# EAGLE library part 52892-1595 (library molex)
CONNECTOR, FPC, ZIF, 0.50MM, 15 WAY
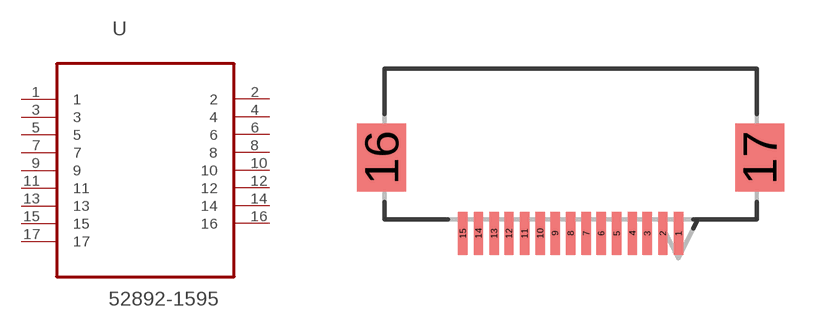
[diagram p30: symbol with the pads of MOLEX_52892-1595; footprint MOLEX_52892-1595]

Designator prefix U

## 52892-1595 (MPN: 52892-1595; OC_FARNELL: 1566152; OC_NEWARK: 92M6600; PACKAGE: CONNECTOR, FPC, ZIF, 0.50MM, 15 WAY; SUPPLIER: Molex)  [MOLEX_52892-1595]
1  1  pas
2  2  pas
3  3  pas
4  4  pas
5  5  pas
6  6  pas
7  7  pas
8  8  pas
9  9  pas
10  10  pas
11  11  pas
12  12  pas
13  13  pas
14  14  pas
15  15  pas
16  16  pas
17  17  pas

## Footprint MOLEX_52892-1595 (pad centres in mm)
smd 0.305 x 1.397: 1 3.505,2.896; 2 2.997,2.896; 3 2.489,2.896; 4 2.007,2.896; 5 1.499,2.896; 6 0.991,2.896; 7 0.508,2.896; 8 0,2.896; 9 -0.508,2.896; 10 -0.991,2.896; 11 -1.499,2.896; 12 -2.007,2.896; 13 -2.489,2.896; 14 -2.997,2.896; 15 -3.505,2.896
smd 1.6 x 2.21: 16 -6.147,5.359; 17 6.147,5.359